# Altium schematic symbol library Schematic Diagrams.SchLib: 401 symbols (part 7 of 11)
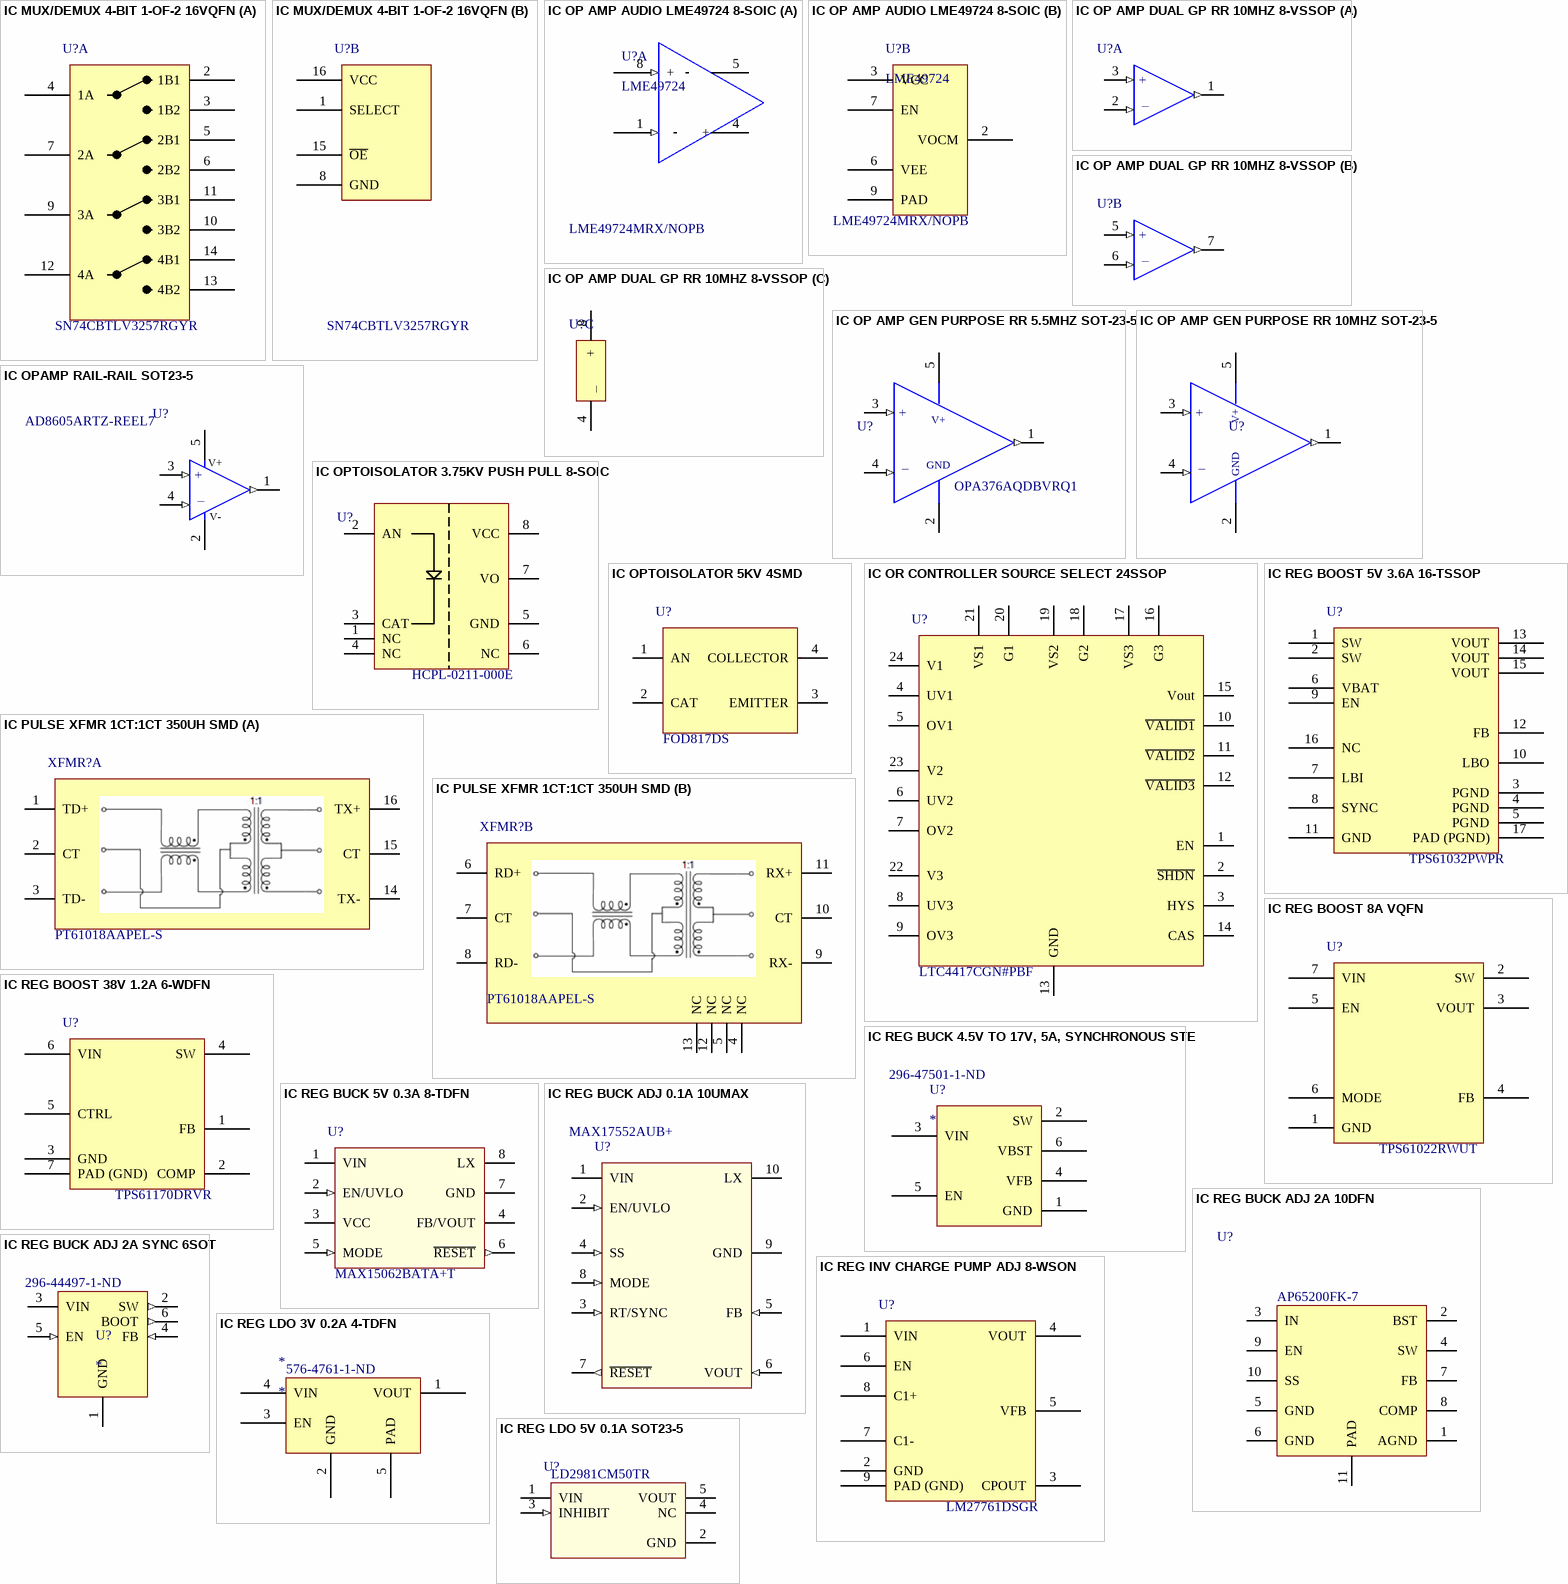
[diagram p20: symbols IC MUX/DEMUX 4-BIT 1-OF-2 16VQFN to IC REG LDO 5V 0.1A SOT23-5]

## IC REG BOOST 38V 1.2A 6-WDFN
designator U?  Manufacturer Part Number: TPS61170DRVR  (hidden comment: *)
Boost, Buck-Boost, Flyback, SEPIC Switching Regulator IC Positive Adjustable 3V 1 Output 960mA (Switch) 6-WDFN Exposed Pad; Manufacturer: Texas Instruments; Output Current: 1.2A; Output Voltage: 38V; Switching Frequency: 1.2MHz; Number of Outputs: 1; Efficiency: 93%; Max Input Voltage: 18V; Synchronous Rectifier: No; Quiescent Current: 2.3mA; Nominal Supply Current: 2.2mA; Supplier 1: Digi-Key; RoHS: Yes; Category: Voltage Regulators - Switching; Stock 1: 61005; Pricing 1: 1=2.14000, 10=1.92200, 25=1.81280, 100=1.45020, 250=1.26896, 500=1.23270, 1000=0.97891 (USD); Case/Package: QFN; Number of Pins: 6; Min Operating Temperature: -40°C; Max Operating Temperature: 85°C; Package Quantity: 1; Packaging: Tape and Reel; Max Output Current: 960mA; Min Input Voltage: 3V; Min Output Voltage: 3V; Max Output Voltage: 38V; Topology: Boost; Operating Supply Voltage: 18V; Output Type: Adjustable; Output Configuration: Positive; Radiation Hardening: No; REACH SVHC: No SVHC; Lead Free: Lead Free; ComponentLink1URL: https://datasheet.ciiva.com/7115/1764435-7115937.pdf?src-supplier=Newark; ComponentLink1Description: https://datasheet.ciiva.com/7115/1764435-7115937.pdf?src-supplier=Newark; ComponentLink2URL: https://datasheet.ciiva.com/41462/001014890-da-01-en-ic-reg-multi-con-tps61170drvr-wson-6-tid-41462735.pdf?src-supplier=Conrad; ComponentLink2Description: https://datasheet.ciiva.com/41462/001014890-da-01-en-ic-reg-multi-con-tps61170drvr-wson-6-tid-41462735.pdf?src-supplier=Conrad; ComponentLink3URL: https://datasheet.ciiva.com/2025/tps61170-2025720.pdf?src-supplier=Digi-Key; ComponentLink3Description: https://datasheet.ciiva.com/2025/tps61170-2025720.pdf?src-supplier=Digi-Key; ComponentLink4URL: https://datasheet.ciiva.com/2025/tps61170-2025721.pdf?src-supplier=Digi-Key; ComponentLink4Description: https://datasheet.ciiva.com/2025/tps61170-2025721.pdf?src-supplier=Digi-Key; ComponentLink5URL: https://datasheet.ciiva.com/15223/getdatasheetpartid-294050-15223093.pdf?src-supplier=Verical; ComponentLink5Description: https://datasheet.ciiva.com/15223/getdatasheetpartid-294050-15223093.pdf?src-supplier=Verical; ComponentLink6URL: https://datasheet.ciiva.com/2025/tps61170-2025719.pdf?src-supplier=Digi-Key; ComponentLink6Description: https://datasheet.ciiva.com/2025/tps61170-2025719.pdf?src-supplier=Digi-Key; Supplier Part Number 1: 296-22945-1-ND
footprint QFN65P200X200X80_HS-7M (QFN, 6-Leads, Body 2.00x2.00mm, Pitch 0.65mm, Thermal Pad 1.00x1.60mm, IPC Low Density)
pins: 1 FB, 2 COMP, 3 GND, 4 SW, 5 CTRL, 6 VIN, 7 PAD (GND)

## IC REG BUCK 4.5V TO 17V, 5A, SYNCHRONOUS STE
designator U?  Supplier Part Number 1: 296-47501-1-ND
Buck Switching Regulator IC Positive Adjustable 0.6V 1 Output 5A SOT-23-6 Thin, TSOT-23-6; Manufacturer: Texas Instruments; Manufacturer Part Number: TPS565201DDCT; Supplier 1: Digi-Key; Stock 1: 2226; Pricing 1: 1 = 2.46000, 10 = 2.21100, 100 = 1.77710 (USD); Min Operating Temperature: -40°C; Max Operating Temperature: 125°C
footprint IC REG BUCK 4.5V TO 17V, 5A (Buck Switching Regulator IC Positive Adjustable 0.6V 1 Output 5A SOT-23-6 Thin, TSOT-23-6)
pins: 1 GND, 2 SW, 3 VIN, 4 VFB, 5 EN, 6 VBST

## IC REG BUCK 5V 0.3A 8-TDFN
designator U?  Manufacturer Part Number 1: MAX15062BATA+T
Buck Switching Regulator IC Positive Fixed 5V 1 Output 300mA 8-WFDFN; Manufacturer 1: Maxim Integrated; Function: Step-Down; Number of Outputs: 1; Voltage - Input (Min): 4.5V; Voltage - Input (Max): 60V; Frequency - Switching: 500kHz; Synchronous Rectifier: Yes; Supplier 1: Digi-Key; Supplier Part Number 1: MAX15062BATA+TCT-ND; Packaging: Cut Tape (CT); Part Status: Active; Output Configuration: Positive; Topology: Buck; Output Type: Fixed; Voltage - Output (Min/Fixed): 5V; Voltage - Output (Max): -; Current - Output: 300mA; Operating Temperature: -40°C ~ 125°C (TJ); Mounting Type: Surface Mount; Package / Case: 8-WFDFN; Supplier Device Package: 8-TDFN (2x2); ComponentLink1URL: http://datasheets.maximintegrated.com/en/ds/MAX15062.pdf; ComponentLink1Description: http://datasheets.maximintegrated.com/en/ds/MAX15062.pdf
pins: 1 VIN (power), 2 EN/UVLO (in), 3 VCC (power), 4 FB/VOUT (power), 5 MODE (in), 6 ~{RESET} (out), 7 GND (power), 8 LX (power)

## IC REG BUCK ADJ 0.1A 10UMAX
designator U?  Manufacturer Part Number 1: MAX17552AUB+
Buck Switching Regulator IC Positive Adjustable 0.8V 1 Output 100mA 10-TFSOP, 10-MSOP (0.118", 3.00mm Width); Manufacturer 1: Maxim Integrated; Function: Step-Down; Number of Outputs: 1; Voltage - Input (Min): 4V; Voltage - Input (Max): 60V; Voltage - Output (Max): 54V; Frequency - Switching: 100kHz ~ 2.2MHz; Synchronous Rectifier: Yes; Supplier 1: Digi-Key; Supplier Part Number 1: MAX17552AUB+-ND; Packaging: Tube; Part Status: Active; Output Configuration: Positive; Topology: Buck; Output Type: Adjustable; Voltage - Output (Min/Fixed): 0.8V; Current - Output: 100mA; Operating Temperature: -40°C ~ 125°C (TJ); Mounting Type: Surface Mount; Package / Case: 10-TFSOP, 10-MSOP (0.118", 3.00mm Width); Supplier Device Package: 10-uMAX; ComponentLink1URL: http://datasheets.maximintegrated.com/en/ds/MAX17552.pdf; ComponentLink1Description: http://datasheets.maximintegrated.com/en/ds/MAX17552.pdf
footprint TSSOP50P490X110-10N (TSSOP, 10-Leads, Body 3.00x3.00mm, Pitch 0.50mm, IPC Medium Density)
pins: 1 VIN (power), 2 EN/UVLO (in), 3 RT/SYNC (in), 4 SS (in), 5 FB (in), 6 VOUT (in), 7 ~{RESET} (out), 8 MODE (in), 9 GND (power), 10 LX (power)

## IC REG BUCK ADJ 2A 10DFN
designator U?  Manufacturer Part Number 1: AP65200FK-7
Buck Switching Reg IC Positive Adjustable 0.925V 1 Output 2A 10-UFDFN Exposed Pad; Manufacturer 1: Diodes Incorporated; Function: Step-Down; Number of Outputs: 1; Voltage - Input (Min): 4.7V; Voltage - Input (Max): 18V; Voltage - Output (Max): 16V; Frequency - Switching: 340kHz; Synchronous Rectifier: Yes; Supplier 1: Digi-Key; Supplier Part Number 1: AP65200FK-7DICT-ND; Packaging: Cut Tape (CT); Part Status: Active; Output Configuration: Positive; Topology: Buck; Output Type: Adjustable; Voltage - Output (Min/Fixed): 0.925V; Current - Output: 2A; Operating Temperature: -40°C ~ 85°C (TA); Mounting Type: Surface Mount; Package / Case: 10-UFDFN Exposed Pad; Supplier Device Package: U-DFN2626-10; ComponentLink1URL: https://www.diodes.com/assets/Datasheets/AP65200.pdf; ComponentLink1Description: https://www.diodes.com/assets/Datasheets/AP65200.pdf
footprint 10-UFDFN
pins: 1 AGND, 2 BST, 3 IN, 4 SW, 5 GND (power), 6 GND (power), 7 FB, 8 COMP, 9 EN, 10 SS, 11 PAD

## IC REG BUCK ADJ 2A SYNC 6SOT
designator U?  Supplier Part Number 1: 296-44497-1-ND
Buck Switching Regulator IC Positive Adjustable 0.596V 1 Output 2A SOT-23-6 Thin, TSOT-23-6; Manufacturer: Texas Instruments; Manufacturer Part Number: TPS54202HDDCT; Min Input Voltage: 4.5V; Max Input Voltage: 28V; Number of Outputs: 1; Min Output Voltage: 600mV; Max Output Voltage: 26V; Switching Frequency: 500kHz; Quiescent Current: 40uA; Supplier 1: Digi-Key; Stock 1: 2574; Pricing 1: 1=2, 10=1.796, 100=1.4436 (USD); Case/Package: SOT-6; Number of Pins: 6; Min Operating Temperature: -40°C; Max Operating Temperature: 125°C; Output Current: 2A; Packaging: Cut Tape; Output Voltage: 26V; REACH SVHC: No SVHC; Lead Free: Lead Free; ComponentLink1URL: http://www.ti.com/lit/ds/symlink/tps54202h.pdf; ComponentLink1Description: http://www.ti.com/lit/ds/symlink/tps54202h.pdf; ComponentLink2URL: http://www.ti.com/general/docs/lit/getliterature.tsp?genericPartNumber=TPS54202H&amp;&amp;fileType=pdf; ComponentLink2Description: http://www.ti.com/general/docs/lit/getliterature.tsp?genericPartNumber=TPS54202H&amp;&amp;fileType=pdf; ComponentLink3URL: http://www.ti.com/general/docs/lit/getliterature.tsp?genericPartNumber=TPS54202H&&fileType=pdf; ComponentLink3Description: http://www.ti.com/general/docs/lit/getliterature.tsp?genericPartNumber=TPS54202H&&fileType=pdf
footprint SOT23-6
pins: 1 GND (power) "Ground pin. Source terminal of low-side power NFET as well as the ground terminal for controller", 2 SW (out) "Switch node connection between high-side NFET and low-side NFET.", 3 VIN (power) "Input voltage supply pin. The drain terminal of high-side power NFET", 4 FB (in) "Converter feedback input. Connect to output voltage with feedback resistor divider", 5 EN (in) "This pin is the enable pin. Float the EN pin to disable", 6 BOOT (out) "Supply input for the high-side NFET gate drive circuit. Connect a 0.1-μF capacitor between BOOT and"

## IC REG INV CHARGE PUMP ADJ 8-WSON
designator U?  Manufacturer Part Number: LM27761DSGR  (hidden comment: *)
Charge Pump Switching Regulator IC Negative Adjustable -1.5V 1 Output 250mA 8-WFDFN Exposed Pad; Manufacturer: Texas Instruments; Quiescent Current: 370uA; Supplier 1: Digi-Key; RoHS: No; Category: Voltage Regulators - Switching; Stock 1: 11534; Pricing 1: 1=1.63000, 10=1.46600, 25=1.38280, 100=1.10620, 250=0.96796, 500=0.94028, 1000=0.74670 (USD); Min Operating Temperature: -40°C; Max Operating Temperature: 85°C; Lead Free: Lead Free; ComponentLink1URL: http://www.ti.com/lit/ds/symlink/lm27761.pdf?src-supplier=Newark; ComponentLink1Description: http://www.ti.com/lit/ds/symlink/lm27761.pdf?src-supplier=Newark; ComponentLink2URL: http://www.ti.com/lit/ds/symlink/lm27761.pdf?src-supplier=Farnell; ComponentLink2Description: http://www.ti.com/lit/ds/symlink/lm27761.pdf?src-supplier=Farnell; ComponentLink3URL: http://www.ti.com/lit/ds/symlink/lm27761.pdf?src-supplier=Digi-Key; ComponentLink3Description: http://www.ti.com/lit/ds/symlink/lm27761.pdf?src-supplier=Digi-Key; ComponentLink4URL: http://www.ti.com/lit/gpn/lm27761?src-supplier=Mouser; ComponentLink4Description: http://www.ti.com/lit/gpn/lm27761?src-supplier=Mouser; Supplier Part Number 1: 296-44379-1-ND
footprint QFN50P200X200X80_HS-9M (QFN, 8-Leads, Body 2.00x2.00mm, Pitch 0.50mm, Thermal Pad 0.90x1.60mm, IPC Low Density)
pins: 1 VIN, 2 GND, 3 CPOUT, 4 VOUT, 5 VFB, 6 EN, 7 C1-, 8 C1+, 9 PAD (GND)

## IC REG LDO 3V 0.2A 4-TDFN
designator *  Supplier Part Number 1: 576-4761-1-ND
Manufacturer: Microchip Technology; Manufacturer Part Number: MIC94310-PYMT-TR; Regulator Topology: Positive Fixed; Voltage - Output: 3V; Current - Output: 200mA; Voltage - Dropout (Typical): 0.04V @ 200mA; Voltage - Input: Up to 3.6V; Current - Limit (Min): 250mA; Supplier 1: Digi-Key; RoHS: RoHS Compliant; Category: Integrated Circuits (ICs); Stock 1: 4802; Pricing 1: 1=0.45, 25=0.3708, 100=0.3386 (CAD); Packaging: Cut Tape (CT); Part Status: Active; Operating Temperature: -40°C ~ 125°C; Mounting Type: Surface Mount; Package / Case: 4-UFDFN Exposed Pad; Supplier Device Package: 4-TDFN (1.2x1.6); ComponentLink1URL: http://www.microchip.com/mymicrochip/filehandler.aspx?ddocname=en580409; ComponentLink1Description: http://www.microchip.com/mymicrochip/filehandler.aspx?ddocname=en580409
footprint IC REG LDO 3V 0.2A 4-TDFN (QFN, 4-Leads, Body 1.20x1.60mm, Pitch 0.50mm/1.40mm, Thermal Pad 0.86x0.50mm, IPC Medium Density)
pins: 1 VOUT, 2 GND, 3 EN, 4 VIN, 5 PAD

## IC REG LDO 5V 0.1A SOT23-5
designator U?  Manufacturer Part Number 1: LD2981CM50TR
Linear Voltage Regulator IC Positive Fixed Output 5V 100mA SOT-23-5; Manufacturer 1: STMicroelectronics; Voltage - Dropout (Typical): 0.18V @ 100mA; Voltage - Input: Up to 16V; Supplier 1: Digi-Key; Supplier Part Number 1: 497-7787-1-ND; Packaging: Cut Tape (CT); Part Status: Active; Regulator Topology: Positive Fixed; Voltage - Output: 5V; Current - Output: 100mA; Current - Limit (Min): -; Operating Temperature: -40°C ~ 125°C; Mounting Type: Surface Mount; Package / Case: SC-74A, SOT-753; Supplier Device Package: SOT-23-5; ComponentLink1URL: http://www.st.com/content/ccc/resource/technical/document/datasheet/group1/b7/b5/a1/83/9c/bd/4a/90/CD00001635/files/CD00001635.pdf/jcr:content/translations/en.CD00001635.pdf; ComponentLink1Description: http://www.st.com/content/ccc/resource/technical/document/datasheet/group1/b7/b5/a1/83/9c/bd/4a/90/CD00001635/files/CD00001635.pdf/jcr:content/translations/en.CD00001635.pdf
footprint SOT95P280X145-5N (SOT23, 5-Leads, Body 2.95x2.80mm, Pitch 0.95mm, IPC Medium Density)
pins: 1 VIN (power), 2 GND (power), 3 INHIBIT (in), 4 NC, 5 VOUT (power)

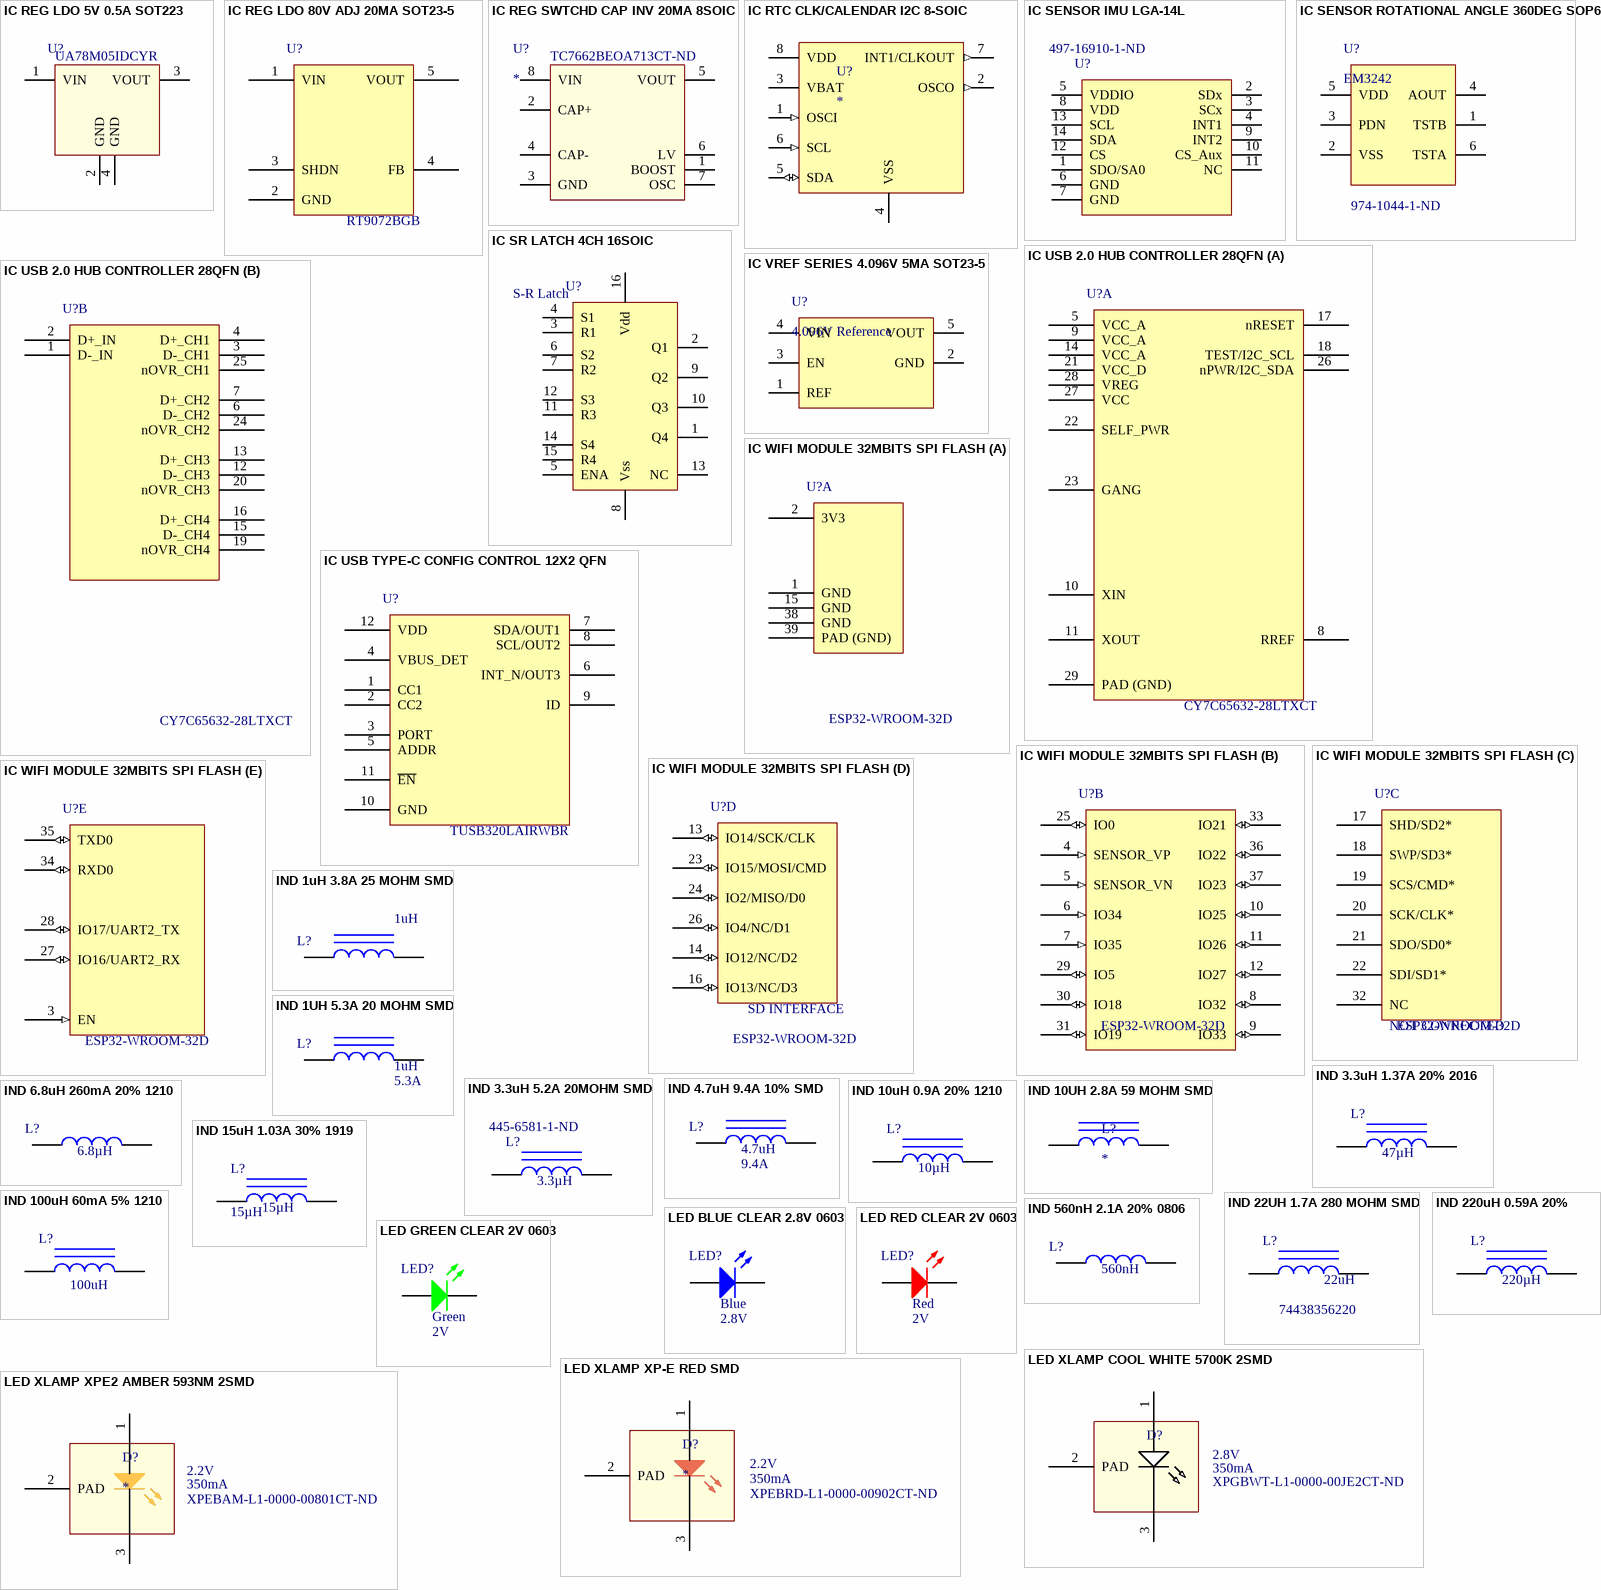
[diagram p10: symbols IC REG LDO 5V 0.5A SOT223 to LED XLAMP XPE2 AMBER 593NM 2SMD]

## IC REG LDO 5V 0.5A SOT223
designator U?  Manufacturer Part Number 1: UA78M05IDCYR
Linear Voltage Regulator IC Positive Fixed Output 5V 500mA SOT-223-4; Manufacturer 1: Texas Instruments; Voltage - Dropout (Typical): 2V @ 350mA; Voltage - Input: 7 V ~ 25 V; Supplier 1: Digi-Key; Supplier Part Number 1: 296-17616-1-ND; Packaging: Cut Tape (CT); Part Status: Active; Regulator Topology: Positive Fixed; Voltage - Output: 5V; Current - Output: 500mA; Current - Limit (Min): -; Operating Temperature: -40°C ~ 125°C; Mounting Type: Surface Mount; Package / Case: TO-261-4, TO-261AA; ComponentLink1URL: http://www.ti.com/lit/ds/symlink/ua78m.pdf; ComponentLink1Description: http://www.ti.com/lit/ds/symlink/ua78m.pdf; Supplier Device Package: SOT-223-4
footprint SOT223_N (SOT223, 4-Leads, Body 6.5x3.5mm, Pitch 2.3mm, Lead Span 7mm, IPC Medium Density)
pins: 1 VIN (power), 2 GND (power), 3 VOUT (power), 4 GND (power)

## IC REG LDO 80V ADJ 20MA SOT23-5
designator U?  Manufacturer Part Number: RT9072BGB  (hidden comment: *)
Linear Voltage Regulator IC 1 Output 20mA SOT-23-5; Manufacturer: Richtek; Supplier 1: Digi-Key; RoHS: No; Stock 1: 495; Pricing 1: 1=1.34000, 10=1.19700, 25=1.13640, 100=0.87250, 250=0.77104, 500=0.73048, 1000=0.56815 (USD); ComponentLink1URL: http://www.richtek.com/assets/product_file/RT9072A=RT9072B/DS9072AB-01.pdf?src-supplier=Digi-Key; ComponentLink1Description: http://www.richtek.com/assets/product_file/RT9072A=RT9072B/DS9072AB-01.pdf?src-supplier=Digi-Key; ComponentLink2URL: https://www.richtek.com/assets/product_file/RT9072A=RT9072B/DS9072AB-01.pdf?src-supplier=Digi-Key; ComponentLink2Description: https://www.richtek.com/assets/product_file/RT9072A=RT9072B/DS9072AB-01.pdf?src-supplier=Digi-Key; Supplier Part Number 1: RT9072BGBCT-ND
footprint SOT95P280X145-5N (SOT23, 5-Leads, Body 2.95x2.80mm, Pitch 0.95mm, IPC Medium Density)
pins: 1 VIN, 2 GND, 3 SHDN, 4 FB, 5 VOUT

## IC REG SWTCHD CAP INV 20MA 8SOIC
designator U?  Supplier Part Number 1: TC7662BEOA713CT-ND
Charge Pump Switching Regulator IC Positive or Negative Fixed -Vin, 2Vin 1 Output 20mA 8-SOIC (0.154", 3.90mm Width); Manufacturer: Microchip; Manufacturer Part Number: TC7662BEOA713; Number of Outputs: 1; Output Voltage: -15V; Min Supply Voltage: 1.5V; Max Supply Voltage: 15V; Switching Frequency: 35kHz; Synchronous Rectifier: No; Logic Function: Inverting; Output Power: 470mW; Supplier 1: Digi-Key; Stock 1: 59; Pricing 1: 1=2.29, 25=1.9056, 100=1.7304 (USD); Mount: Surface Mount; Case/Package: SOIC; Number of Pins: 8; Weight: 0.006596oz; Min Operating Temperature: -40°C; Max Operating Temperature: 85°C; Package Quantity: 1; Packaging: Tape and Reel; Output Current: 20mA; Max Output Current: 20mA; Max Input Voltage: 15V; Max Output Voltage: -15V; Topology: Charge Pump; Length: 5mm; Height: 1.5mm; Width: 3.99mm; Radiation Hardening: No; Lead Free: Lead Free; ComponentLink1URL: https://datasheet.ciiva.com/2024/21469a-2024368.pdf; ComponentLink1Description: https://datasheet.ciiva.com/2024/21469a-2024368.pdf; ComponentLink2URL: https://datasheet.ciiva.com/2024/filehandler-aspxddocname-en026002-2024369.pdf; ComponentLink2Description: https://datasheet.ciiva.com/2024/filehandler-aspxddocname-en026002-2024369.pdf; ComponentLink3URL: https://datasheet.ciiva.com/16295/filehandler-aspxddocname-en011347-16295442.pdf; ComponentLink3Description: https://datasheet.ciiva.com/16295/filehandler-aspxddocname-en011347-16295442.pdf; ComponentLink4URL: https://datasheet.ciiva.com/3216/cn-21469a-3216331.pdf; ComponentLink4Description: https://datasheet.ciiva.com/3216/cn-21469a-3216331.pdf; ComponentLink5URL: https://datasheet.ciiva.com/18553/filehandler-aspxddocname-en026002-18553038.pdf; ComponentLink5Description: https://datasheet.ciiva.com/18553/filehandler-aspxddocname-en026002-18553038.pdf; ComponentLink6URL: https://datasheet.ciiva.com/4875/21469a-4875151.pdf; ComponentLink6Description: https://datasheet.ciiva.com/4875/21469a-4875151.pdf
pins: 1 BOOST (power), 2 CAP+, 3 GND (power), 4 CAP- (power), 5 VOUT (power), 6 LV (power), 7 OSC (power), 8 VIN (power)

## IC RTC CLK/CALENDAR I2C 8-SOIC
designator U?
Real Time Clock (RTC) IC Clock/Calendar I²C, 2-Wire Serial 8-SOIC (0.154", 3.90mm Width); Manufacturer: NXP Semiconductors; Manufacturer Part Number: PCF8523T/1,118; Min Supply Voltage: 1.2V; Max Supply Voltage: 5.5V; Interface: I2C; Time Format: HH:MM:SS; Supplier 1: Digi-Key; Stock 1: 18252; Pricing 1: 1=1.3, 10=1.16, 100=0.9045, 500=0.74718, 1000=0.58988 (USD); Mount: Surface Mount; Case/Package: SO; Number of Pins: 8; Contact Plating: Gold; Min Operating Temperature: -40°C; Max Operating Temperature: 85°C; Packaging: Tape and Reel; Package Quantity: 2500; Logic Function: Clock; Radiation Hardening: No; REACH SVHC: No SVHC; Lead Free: Lead Free; ComponentLink1URL: https://datasheet.ciiva.com/15152/getdatasheetpartid-445247-15152839.pdf; ComponentLink1Description: https://datasheet.ciiva.com/15152/getdatasheetpartid-445247-15152839.pdf; ComponentLink2URL: https://datasheet.ciiva.com/1238/pcf8523-1238780.pdf; ComponentLink2Description: https://datasheet.ciiva.com/1238/pcf8523-1238780.pdf; ComponentLink3URL: https://datasheet.ciiva.com/1238/pcf8523-1238781.pdf; ComponentLink3Description: https://datasheet.ciiva.com/1238/pcf8523-1238781.pdf; ComponentLink4URL: https://datasheet.ciiva.com/16286/pcf8523-16286477.pdf; ComponentLink4Description: https://datasheet.ciiva.com/16286/pcf8523-16286477.pdf; ComponentLink5URL: https://datasheet.ciiva.com/1238/pcf8523-1238782.pdf; ComponentLink5Description: https://datasheet.ciiva.com/1238/pcf8523-1238782.pdf; Supplier Part Number 1: 568-5306-1-ND
footprint SOIC8
pins: 1 OSCI (in) "oscillator input;", 2 OSCO (out) "oscillator output; high-impedance", 3 VBAT (power) "battery supply voltage", 4 VSS "ground supply votlage", 5 SDA (io) "serial data input/output", 6 SCL (in) "serical clock input", 7 INT1/CLKOUT (out), 8 VDD (power)

## IC SENSOR IMU LGA-14L
designator U?  Supplier Part Number 1: 497-16910-1-ND  (hidden comment: *)
Accelerometer, Gyroscope, 3 Axis Sensor I²C, SPI Output; Manufacturer: STMicroelectronics; Manufacturer Part Number: LSM6DS3USTR; Supplier 1: Digi-Key; RoHS: RoHS Compliant; Category: Sensors, Transducers; Stock 1: 23614; Pricing 1: 1=4.3, 10=3.858, 100=3.1606, 500=2.69052, 1000=2.26912 (CAD); Part Status: Active; Sensor Type: Accelerometer, Gyroscope, 3 Axis; Output Type: I²C, SPI; Operating Temperature: -40°C ~ 85°C (TA); ComponentLink1URL: http://www.st.com/content/ccc/resource/technical/document/datasheet/group0/2e/84/27/34/60/8d/49/f2/DM00237513/files/DM00237513.pdf/jcr:content/translations/en.DM00237513.pdf; ComponentLink1Description: http://www.st.com/content/ccc/resource/technical/document/datasheet/group0/2e/84/27/34/60/8d/49/f2/DM00237513/files/DM00237513.pdf/jcr:content/translations/en.DM00237513.pdf
footprint IC SENSOR IMU LGA-14L (PQFN, 14-Leads, Body 3.00x2.50mm, Pitch 0.50mm, IPC Medium Density)
pins: 1 SDO/SA0, 2 SDx, 3 SCx, 4 INT1, 5 VDDIO, 6 GND, 7 GND, 8 VDD, 9 INT2, 10 CS_Aux, 11 NC, 12 CS, 13 SCL, 14 SDA

## IC SENSOR ROTATIONAL ANGLE 360DEG SOP6
designator U?, comment EM3242  Supplier Part Number 1: 974-1044-1-ND
Hall Effect Sensor Angle External Magnet, Not Included SMD (SMT) Tab; Manufacturer: AKM Semiconductor; Supplier 1: Digi-Key; Manufacturer Part Number: EM3242; Stock 1: 17913; Pricing 1: 1=4.79, 5=4.224, 10=3.731, 25=3.0272, 50=2.6752, 100=2.6048, 500=2.1824, 1000=2.0416 (USD); Mount: Surface Mount; Min Operating Temperature: -30°C; Max Operating Temperature: 85°C; Package Quantity: 5000; Termination: SMD/SMT; Sensing Method: Hall Effect; ComponentLink1URL: https://datasheet.ciiva.com/2812/em-324220ver-097-2812049.pdf; ComponentLink1Description: https://datasheet.ciiva.com/2812/em-324220ver-097-2812049.pdf; ComponentLink2URL: https://datasheet.ciiva.com/2812/em3242-2812050.pdf; ComponentLink2Description: https://datasheet.ciiva.com/2812/em3242-2812050.pdf; ComponentLink3URL: https://datasheet.ciiva.com/2812/em3242-2812051.pdf; ComponentLink3Description: https://datasheet.ciiva.com/2812/em3242-2812051.pdf
footprint IC SENSOR ROTATIONAL ANGLE 360DEG SOP6 (TSOP, 6-Leads, Body 3.60x3.00mm, Pitch 1.00mm, IPC Medium Density)
pins: 1 TSTB, 2 VSS, 3 PDN, 4 AOUT, 5 VDD, 6 TSTA

## IC SR LATCH 4CH 16SOIC
designator U?  Logic Type: S-R Latch
S-R Latch 4 Channel 1:1 IC Tri-State 16-TSSOP; Manufacturer 1: Texas Instruments; Manufacturer Part Number 1: CD4043BDR; Voltage - Supply: 3 V ~ 18 V; Delay Time - Propagation: 50ns; Current - Output High, Low: 6.8mA, 6.8mA; Supplier 1: Digi-Key; Supplier Part Number 1: 296-31496-1-ND; Packaging: Cut Tape (CT); Part Status: Active; Circuit: 1:1; Output Type: Tri-State; Operating Temperature: -55°C ~ 125°C; Mounting Type: Surface Mount; Package / Case: 16-SOIC (0.154", 3.90mm Width); Supplier Device Package: 16-SOIC; ComponentLink1URL: http://www.ti.com/lit/ds/symlink/cd4043b.pdf; ComponentLink1Description: http://www.ti.com/lit/ds/symlink/cd4043b.pdf
footprint IC, SR Latch, CD4043BDR (SR LATCH)
pins: 1 Q4, 2 Q1, 3 R1, 4 S1, 5 ENA, 6 S2, 7 R2, 8 Vss, 9 Q2, 10 Q3, 11 R3, 12 S3, 13 NC, 14 S4, 15 R4, 16 Vdd

## IC USB 2.0 HUB CONTROLLER 28QFN
designator U?  Manufacturer Part Number: CY7C65632-28LTXCT  (hidden comment: *)
USB Hub Controller USB 2.0 USB Interface 28-QFN (5x5); Manufacturer: Cypress; Data Rate: 480Mbps; Interface: I2C,SPI,GPIO; Max Supply Voltage: 5.25V; Min Supply Voltage: 3.15V; Operating Supply Current: 97.23mA; Operating Supply Voltage: 3.45V; Supplier 1: Digi-Key; RoHS: Yes; Category: Interface ICs; Stock 1: 14139; Pricing 1: 1=3.33000, 10=2.99500, 25=2.83160, 100=2.32800, 250=2.08896, 500=2.01344, 1000=1.67367 (USD); Case/Package: QFN; Number of Pins: 28; Min Operating Temperature: 0°C; Max Operating Temperature: 70°C; Package Quantity: 1; Packaging: Tape and Reel; Lead Free: Lead Free; ComponentLink1URL: https://datasheet.ciiva.com/6636/cy7c65632-34-6636581.pdf?src-supplier=Digi-Key; ComponentLink1Description: https://datasheet.ciiva.com/6636/cy7c65632-34-6636581.pdf?src-supplier=Digi-Key; ComponentLink2URL: https://datasheet.ciiva.com/6636/cy7c65632-34-6636584.pdf?src-supplier=Digi-Key; ComponentLink2Description: https://datasheet.ciiva.com/6636/cy7c65632-34-6636584.pdf?src-supplier=Digi-Key; Supplier Part Number 1: 428-3156-1-ND
footprint QFN50P500X500X80-29N
part A pins: 5 VCC_A, 8 RREF, 9 VCC_A, 10 XIN, 11 XOUT, 14 VCC_A, 17 nRESET, 18 TEST/I2C_SCL, 21 VCC_D, 22 SELF_PWR, 23 GANG, 26 nPWR/I2C_SDA, 27 VCC, 28 VREG, 29 PAD (GND)
part B pins: 1 D-_IN, 2 D+_IN, 3 D-_CH1, 4 D+_CH1, 6 D-_CH2, 7 D+_CH2, 12 D-_CH3, 13 D+_CH3, 15 D-_CH4, 16 D+_CH4, 19 nOVR_CH4, 20 nOVR_CH3, 24 nOVR_CH2, 25 nOVR_CH1

## IC USB TYPE-C CONFIG CONTROL 12X2 QFN
designator U?  Manufacturer Part Number: TUSB320LAIRWBR  (hidden comment: *)
USB, Type-C Configuration PMIC 12-X2QFN (1.6x1.6); Manufacturer: Texas Instruments; Supplier 1: Digi-Key; Supplier Part Number 1: 296-43142-1-ND; Stock 1: 1650; Pricing 1: 1 = 1.87000, 10 = 1.68100, 100 = 1.35140, 500 = 1.11034, 1000 = 0.92000 (USD); RoHS: Yes; Mount: Surface Mount; Number of Pins: 12; Min Operating Temperature: -40°C; Max Operating Temperature: 85°C; Packaging: Tape and Reel; Lead Free: Lead Free; ComponentLink1URL: http://www.ti.com/lit/ds/symlink/tusb320hai.pdf?src-supplier=Avnet+Asia; ComponentLink1Description: http://www.ti.com/lit/ds/symlink/tusb320hai.pdf?src-supplier=Avnet+Asia
footprint IC USB TYPE-C CONFIG CONTROL 12X2 QFN
pins: 1 CC1, 2 CC2, 3 PORT, 4 VBUS_DET, 5 ADDR, 6 INT_N/OUT3, 7 SDA/OUT1, 8 SCL/OUT2, 9 ID, 10 GND, 11 ~{EN}, 12 VDD

## IC VREF SERIES 4.096V 5MA SOT23-5
designator U?, comment 4.096V Reference
Series Voltage Reference IC ±0.2% 5mA SOT-23-5; Manufacturer 1: Texas Instruments; Manufacturer Part Number 1: LM4120AIM5-4.1/NOPB; Description 1: IC VREF SERIES 4.096V SOT23-5; Output Type: Fixed; Temperature Coefficient: 50ppm/°C; Noise - 0.1Hz to 10Hz: 20µVp-p; Noise - 10Hz to 10kHz: 36µVp-p; Voltage - Input: 2 V ~ 12 V; Current - Supply: 275µA; Supplier 1: Digi-Key; Supplier Part Number 1: LM4120AIM5-4.1/NOPBCT-ND; RoHS: RoHS Compliant; Category: Integrated Circuits (ICs); Stock 1: 10567; Pricing 1: 1=2.93, 10=2.633, 100=2.1166, 500=1.73892 (CAD); Packaging: Cut Tape (CT); Part Status: Active; Reference Type: Series; Voltage - Output (Min/Fixed): 4.096V; Tolerance: ±0.2%; Operating Temperature: -40°C ~ 85°C (TA); Mounting Type: Surface Mount; Package / Case: SC-74A, SOT-753; Supplier Device Package: SOT-23-5; ComponentLink1URL: http://www.ti.com/lit/ds/symlink/lm4120.pdf; ComponentLink1Description: http://www.ti.com/lit/ds/symlink/lm4120.pdf
footprint IC OP AMP GP RR 10MHZ SOT-23-5 (SOT23, 5-Leads, Body 2.90x2.80mm, Pitch 0.95mm, IPC Medium Density)
pins: 1 REF, 2 GND, 3 EN, 4 VIN, 5 VOUT

## IC WIFI MODULE 32MBITS SPI FLASH
designator U?, comment ESP32-WROOM-32D
WIFI MODULE 32MBITS SPI FLASH; Manufacturer: Espressif Systems; Supplier 1: Digi-Key; RoHS: No; Stock 1: 12381; Pricing 1: 1=3.80000 (USD); ComponentLink1URL: https://www.espressif.com/sites/default/files/documentation/esp32-wroom-32d_esp32-wroom-32u_datasheet_en.pdf?src-supplier=Digi-Key; ComponentLink1Description: https://www.espressif.com/sites/default/files/documentation/esp32-wroom-32d_esp32-wroom-32u_datasheet_en.pdf?src-supplier=Digi-Key; Supplier Part Number 1: 1904-1023-1-ND; Manufacturer Part Number: ESP32-WROOM-32D
footprint IC WIFI MODULE 32MBITS SPI FLASH
part A pins: 1 GND (power), 2 3V3 (power), 15 GND (power), 38 GND (power), 39 PAD (GND) (power)
part B pins: 4 SENSOR_VP (in), 5 SENSOR_VN (in), 6 IO34 (in), 7 IO35 (in), 8 IO32 (io), 9 IO33 (io), 10 IO25 (io), 11 IO26 (io), 12 IO27 (io), 25 IO0 (io), 29 IO5 (io), 30 IO18 (io), 31 IO19 (io), 33 IO21 (io), 36 IO22 (io), 37 IO23 (io)
part C pins: 17 SHD/SD2*, 18 SWP/SD3*, 19 SCS/CMD*, 20 SCK/CLK*, 21 SDO/SD0*, 22 SDI/SD1*, 32 NC
part D pins: 13 IO14/SCK/CLK (io), 14 IO12/NC/D2 (io), 16 IO13/NC/D3 (io), 23 IO15/MOSI/CMD (io), 24 IO2/MISO/D0 (io), 26 IO4/NC/D1 (io)
part E pins: 3 EN (in), 27 IO16/UART2_RX (io), 28 IO17/UART2_TX (io), 34 RXD0 (io), 35 TXD0 (io)
part C text: NOT CONNECTED
part D text: SD INTERFACE

## IND 1uH 3.8A 25 MOHM SMD
designator L?  Inductance: 1uH  (hidden comment: *)
1µH Shielded Inductor 3.8A 25mOhm Max Nonstandard /; Manufacturer: Vishay Dale; Manufacturer Part Number: IFSC1515AHER1R0M01; Tolerance: 20%; DC Resistance (DCR): 25mR; Test Frequency: 100kHz; Supplier 1: Digi-Key; Supplier Part Number 1: 541-1403-1-ND; Stock 1: 59210; Pricing 1: 1 = 0.64000, 10 = 0.55900, 100 = 0.39960, 500 = 0.33568, 1000 = 0.27175 (USD); RoHS: Yes; Mount: Surface Mount; Case/Package: 1515; Number of Pins: 2; Min Operating Temperature: -55°C; Max Operating Temperature: 125°C; Package Quantity: 2000; Current Rating: 3.8A; Saturation Current: 3.8A; Shielding: Shielded; Packaging: Tape and Reel; Inductance Tolerance: 20%; Max DC Current: 3.8A; Termination: SMD/SMT; RMS Current (Irms): 3.8A; Military Standard: Not; Length: 0.15inch; Height: 1.8mm; Width: 0.15inch; Height - Seated (Max): 0.075inch; Depth: 4mm; REACH SVHC: Unknown; Lead Free: Lead Free; ComponentLink1URL: https://datasheet.ciiva.com/1049/sc15ah01-1049408.pdf?src-supplier=Digi-Key; ComponentLink1Description: https://datasheet.ciiva.com/1049/sc15ah01-1049408.pdf?src-supplier=Digi-Key; ComponentLink2URL: https://datasheet.ciiva.com/1049/sc15ah01-1049409.pdf?src-supplier=Digi-Key; ComponentLink2Description: https://datasheet.ciiva.com/1049/sc15ah01-1049409.pdf?src-supplier=Digi-Key; ComponentLink3URL: https://datasheet.ciiva.com/3079/sc15ah01-3079157.pdf?src-supplier=Avnet; ComponentLink3Description: https://datasheet.ciiva.com/3079/sc15ah01-3079157.pdf?src-supplier=Avnet; ComponentLink4URL: https://datasheet.ciiva.com/1049/sc15ah01-1049407.pdf?src-supplier=Digi-Key; ComponentLink4Description: https://datasheet.ciiva.com/1049/sc15ah01-1049407.pdf?src-supplier=Digi-Key; ComponentLink5URL: https://datasheet.ciiva.com/8017/sc15ah01-8017535.pdf?src-supplier=Element14; ComponentLink5Description: https://datasheet.ciiva.com/8017/sc15ah01-8017535.pdf?src-supplier=Element14
footprint IND 1uH 3.8A 25 MOHM SMD
pins: 1, 2

## IND 1UH 5.3A 20 MOHM SMD
designator L?  Current Rating: 5.3A  Inductance: 1uH  (hidden comment: *)
WURTH ELEKTRONIK         74437334010             Surface Mount Power Inductor, WE-LHMI Series, 1 H, 5.3 A, 13.9 A, Shielded, 0.02 ohm; Manufacturer: Wurth Electronics; Core Material: Ferrite; Saturation Current: 13.9A; DC Resistance (DCR): 20mR; Self Resonant Frequency: 65MHz; Test Frequency: 100kHz; Tolerance: 20%; Supplier 1: Digi-Key; Manufacturer Part Number: 74437334010; RoHS: Yes; Category: Fixed Inductors; Stock 1: 2869; Pricing 1: 1=2.39000, 50=2.21400, 100=2.01300, 250=1.83000, 500=1.66300 (USD); Mount: Surface Mount; Case/Package: SMD/SMT; Number of Pins: 2; Min Operating Temperature: -40°C; Max Operating Temperature: 125°C; Packaging: Cut Tape; Composition: Wirewound; Shielding: Shielded; RMS Current (Irms): 5.3A; Inductance Tolerance: 20%; Length: 0.205inch; Width: 0.205inch; Height - Seated (Max): 0.079inch; REACH SVHC: Unknown; ComponentLink1URL: http://www.farnell.com/datasheets/1880894.pdf?src-supplier=Farnell; ComponentLink1Description: http://www.farnell.com/datasheets/1880894.pdf?src-supplier=Farnell; ComponentLink2URL: http://www.farnell.com/datasheets/1880894.pdf?src-supplier=Element14; ComponentLink2Description: http://www.farnell.com/datasheets/1880894.pdf?src-supplier=Element14; Supplier Part Number 1: 732-6149-1-ND
footprint IND 1UH 5.3A 20 MOHM 5020
pins: 1, 2

## IND 3.3uH 1.37A 20% 2016
designator L?  Inductance: 47µH
3.3µH Shielded Wirewound Inductor 1.37A 170 mOhm Max Nonstandard; Manufacturer: TDK Corporation; Manufacturer Part Number: VLS201612CX-3R3M; Material - Core: Ferrite; Tolerance: ±20%; Current - Saturation: 1.04A; Frequency - Test: 1MHz; Supplier 1: Digi-Key; Supplier Part Number 1: 445-172964-1-ND; RoHS: RoHS Compliant; Category: Inductors, Coils, Chokes; Stock 1: 4000; Pricing 1: 1=0.43, 10=0.387, 50=0.3014, 100=0.2798, 500=0.24538, 1000=0.19803 (USD); Packaging: Cut Tape (CT); Type: Wirewound; Current Rating: 1.37A; Shielding: Shielded; DC Resistance (DCR): 170 mOhm Max; Q @ Freq: -; Frequency - Self Resonant: -; Operating Temperature: -40°C ~ 105°C; Mounting Type: Surface Mount; Package / Case: Nonstandard; Size / Dimension: 0.079" L x 0.063" W (2.00mm x 1.60mm); Height - Seated (Max): 0.047" (1.20mm); Supplier Device Package: 2016; ComponentLink1URL: http://product.tdk.com/en/catalog/datasheets/inductor_commercial_power_vls-cx_en.pdf; ComponentLink1Description: http://product.tdk.com/en/catalog/datasheets/inductor_commercial_power_vls-cx_en.pdf
footprint 445-172964-1-ND
pins: 1, 2

## IND 3.3uH 5.2A 20MOHM SMD
designator L?  Inductance: 3.3µH  Supplier Part Number 1: 445-6581-1-ND
3.3µH Shielded Wirewound Inductor 5.2A 20 mOhm Max Nonstandard; Manufacturer: TDK Corporation; Manufacturer Part Number: VLS201612CX-3R3M; Material - Core: Ferrite; Tolerance: ±20%; Current Rating: 1.37A; Current - Saturation: 1.04A; DC Resistance (DCR): 170 mOhm Max; Frequency - Test: 1MHz; Inductance Tolerance: 30%; Test Frequency: 100kHz; RoHS: RoHS Compliant; Category: Inductors, Coils, Chokes; Packaging: Cut Tape (CT); Type: Wirewound; Shielding: Shielded; Q @ Freq: -; Frequency - Self Resonant: -; Operating Temperature: -40°C ~ 105°C; Mounting Type: Surface Mount; Package / Case: Nonstandard; Size / Dimension: 0.079" L x 0.063" W (2.00mm x 1.60mm); Height - Seated (Max): 0.047" (1.20mm); Supplier Device Package: 2016; ComponentLink1URL: http://product.tdk.com/en/catalog/datasheets/inductor_commercial_power_vls-cx_en.pdf; ComponentLink1Description: http://product.tdk.com/en/catalog/datasheets/inductor_commercial_power_vls-cx_en.pdf; Supplier 1: Digi-Key; Stock 1: 8114; Pricing 1: 1 = 0.60000, 10 = 0.52700, 100 = 0.37660, 500 = 0.31636 (USD); Mount: Surface Mount; Case/Package: Nonstandard; Core Material: Ferrite; Min Operating Temperature: -40°C; Max Operating Temperature: 105°C; Package Quantity: 1; Saturation Current: 5.2A; Max DC Current: 5.2A; Termination: SMD/SMT; Composition: Wirewound; RMS Current (Irms): 5.2A; Military Standard: Not; Length: 0.315inch; Height: 4mm; Width: 8mm; Depth: 8.7mm; REACH SVHC: No SVHC; Lead Free: Lead Free; ComponentLink2URL: http://www.mouser.com/ds/2/400/nductor_commercial_power_vlp8040_en-952627.pdf; ComponentLink2Description: http://www.mouser.com/ds/2/400/nductor_commercial_power_vlp8040_en-952627.pdf
footprint IND 3.3UH 5.2A 20 MOHM SMD VLP8040 (IND 3.3UH 5.2A 20 MOHM SMD)
pins: 1, 2

## IND 4.7uH 9.4A 10% SMD
designator L?  Max DC Current: 9.4A  Inductance: 4.7uH  (hidden comment: *)
Fixed Inductors SER1360 High Current 4.7 uH 10 % 9.4 A; Manufacturer: Coilcraft; Manufacturer Part Number: SER1360-472KLB; Core Material: Ferrite; Tolerance: 10%; Self Resonant Frequency: 32MHz; Shielding: Shielded; DC Resistance (DCR): 6.05mR; Test Frequency: 100kHz; Supplier 1: Mouser; Supplier Part Number 1: 994-SER1360-472KLB; Stock 1: 2176; Pricing 1: 1 = 2.07000, 10 = 1.85000, 50 = 1.66000, 100 = 1.48000, 1000 = 1.07000, 10000 = 0.99800 (USD); RoHS: Yes; Min Operating Temperature: -40°C; Max Operating Temperature: 85°C; Packaging: Cut Tape; Termination: SMD/SMT; Length: 13mm; Height: 5.8mm; Width: 12.9mm; Lead Free: Contains Lead; ComponentLink1URL: http://www.mouser.com/ds/2/597/ser1360-270713.pdf?src-supplier=Mouser; ComponentLink1Description: http://www.mouser.com/ds/2/597/ser1360-270713.pdf?src-supplier=Mouser
footprint IND 4.7uH 9.4A 10% SMD
pins: 1, 2

## IND 6.8uH 260mA 20% 1210
designator L?  Inductance: 6.8µH
6.8µH Shielded Wirewound Inductor 260mA 204 mOhm Max 1210 (3225 Metric); Manufacturer 1: TDK Corporation; Manufacturer Part Number 1: NLFV32T-6R8M-EF; Material - Core: Ferrite; Tolerance: ±20%; Supplier 1: Digi-Key; Supplier Part Number 1: 445-15776-1-ND; Packaging: Cut Tape (CT); Part Status: Active; Type: Wirewound; Current Rating: 260mA; Current - Saturation: -; Shielding: Shielded; DC Resistance (DCR): 204 mOhm Max; Q @ Freq: -; Frequency - Self Resonant: -; Ratings: -; Operating Temperature: -40°C ~ 105°C; Mounting Type: Surface Mount; Package / Case: 1210 (3225 Metric); Supplier Device Package: 1210 (3225 Metric); Size / Dimension: 0.126" L x 0.098" W (3.20mm x 2.50mm); Height - Seated (Max): 0.094" (2.40mm); ComponentLink1URL: https://product.tdk.com/info/en/catalog/datasheets/inductor_commercial_decoupling_nlfv32-ef_en.pdf; ComponentLink1Description: https://product.tdk.com/info/en/catalog/datasheets/inductor_commercial_decoupling_nlfv32-ef_en.pdf
footprint NLFV32T-6R8M-EF/IND 6.8uH
pins: 1, 2

## IND 10uH 0.9A 20% 1210
designator L?  Inductance: 10µH
10µH Shielded Wirewound Inductor 900mA 420 mOhm Max 1210 (3225 Metric); Manufacturer: Murata Electronics North America; Manufacturer Part Number: 1277AS-H-100M=P2; Tolerance: ±20%; Current Rating: 0.9A; Current - Saturation: 1.25A; Supplier 1: Digi-Key; Supplier Part Number 1: 490-10589-1-ND; Type: Wirewound; Shielding: Shielded; DC Resistance (DCR): 420 mOhm Max; Height - Seated (Max): 0.047" (1.20mm); ComponentLink1URL: http://www.toko.co.jp/products-murata/pdf/inductors/m_dfe322512c.pdf; ComponentLink1Description: datasheet
footprint 1210
pins: 1, 2

## IND 10UH 2.8A 59 MOHM SMD
designator L?
10µH Shielded Inductor 2.8A 59 mOhm Max Nonstandard; Manufacturer: Sumida; Manufacturer Part Number: CDRH103RNP-100NC-B; Core Material: Ferrite; Tolerance: 30%; Saturation Current: 3.18A; Inductance: 10uh; DC Resistance (DCR): 59mR; Test Frequency: 100kHz; Supplier 1: Digi-Key; Stock 1: 69; Pricing 1: 1=1.53, 10=1.42, 100=1.027, 500=0.7866 (USD); Mount: Surface Mount; Case/Package: Nonstandard; Min Operating Temperature: -40°C; Max Operating Temperature: 100°C; Packaging: Tape and Reel; Package Quantity: 1000; Current Rating: 2.8A; Shielding: Shielded; Max DC Current: 2.8A; Termination: SMD/SMT; Length: 0.402inch; Height: 3.1mm; Width: 0.394inch; Height - Seated (Max): 0.122inch; Depth: 10.3mm; Radiation Hardening: No; Lead Free: Lead Free; ComponentLink1URL: http://www.mouser.com/ds/2/390/CDRH103R-523372.pdf; ComponentLink1Description: http://www.mouser.com/ds/2/390/CDRH103R-523372.pdf; ComponentLink2URL: http://www.sumida.com/products/pdf/CDRH103R.pdf; ComponentLink2Description: http://www.sumida.com/products/pdf/CDRH103R.pdf; ComponentLink3URL: http://products.sumida.com/products/pdf/CDRH103R.pdf; ComponentLink3Description: http://products.sumida.com/products/pdf/CDRH103R.pdf; Supplier Part Number 1: 308-1910-1-ND
footprint INDP100102X31N (Precision Wire Wound Inductor, 2-Leads, Body 10.00x10.20mm, IPC Medium Density)
pins: 1, 2

## IND 15uH 1.03A 30% 1919
designator L?, comment 15µH
15µH Shielded Wirewound Inductor 1.03A 220 mOhm Max 1919 (4848 Metric); Manufacturer: Bourns Inc.; Manufacturer Part Number: SRR4018-150Y; Tolerance: ±30%; Current - Saturation: 820mA; Supplier 1: Digi-Key; Supplier Part Number 1: SRR4018-150YCT-ND; Type: Wirewound; Current Rating: 1.03A; DC Resistance (DCR): 20 mOhm Max; Height - Seated (Max): 0.079" (2.00mm); Inductance: 15µH
footprint IND_BOURNS_SRR40
pins: 1, 2

## IND 22UH 1.7A 280 MOHM SMD
designator L?  Manufacturer Part Number: 74438356220  Inductance: 22uH
FIXED IND 22UH 1.7A 280MOHM SMD; Manufacturer: Wurth Electronics; Supplier 1: Digi-Key; RoHS: No; Stock 1: 1274; Pricing 1: 1=1.99000, 50=1.89700, 100=1.75600, 250=1.62600, 500=1.50600 (USD); ComponentLink1URL: https://katalog.we-online.de/pbs/datasheet/74438356220.pdf?src-supplier=Digi-Key; ComponentLink1Description: https://katalog.we-online.de/pbs/datasheet/74438356220.pdf?src-supplier=Digi-Key; Supplier Part Number 1: 732-11664-1-ND
footprint IND 22UH 1.7A 280MOHM SMD (SMT Shielded Power Inductor, body 4.1x4.1mm)
pins: 1, 2

## IND 100uH 60mA 5% 1210
designator L?  value 100uH
100µH Unshielded Wirewound Inductor 60mA 11 Ohm Max 1210 (3225 Metric); Manufacturer: EPCOS (TDK); Manufacturer Part Number: B82422T1104J000; Material - Core: Ferrite; Tolerance: ±5%; Q @ Freq: 20 @ 796kHz; Supplier 1: Digi-Key; RoHS: RoHS Compliant; Category: Inductors, Coils, Chokes; Stock 1: 4846; Pricing 1: 1=0.65, 10=0.568, 100=0.4062, 500=0.3412, 1000=0.27621 (CAD); Packaging: Cut Tape (CT); Part Status: Active; Type: Wirewound; Shielding: Unshielded; DC Resistance (DCR): 11 Ohm Max; Ratings: AEC-Q200; Operating Temperature: -55°C ~ 125°C; Mounting Type: Surface Mount; Package / Case: 1210 (3225 Metric); Supplier Device Package: 1210 (3225 Metric); Size / Dimension: 0.126" L x 0.098" W (3.20mm x 2.50mm); Height - Seated (Max): 0.083" (2.10mm); ComponentLink1URL: https://en.tdk.eu/inf/30/db/ind_2008/b82422t.pdf; ComponentLink1Description: https://en.tdk.eu/inf/30/db/ind_2008/b82422t.pdf; Supplier Part Number 1: 495-5646-1-ND
footprint 1210
pins: 1, 2

## IND 220uH 0.59A 20%
designator L?  Inductance: 220µH
220µH Shielded Inductor 590mA 834 mOhm Nonstandard; Manufacturer 1: Laird-Signal Integrity Products; Manufacturer Part Number 1: TYS6045221M-10; Current - Saturation: 700mA; Frequency - Self Resonant: 3.5MHz; Tolerance: ±20%; Supplier 1: Digi-Key; Supplier Part Number 1: 240-2742-1-ND; Packaging: Cut Tape (CT); Part Status: Active; Type: -; Material - Core: -; Current Rating: 590mA; Shielding: Shielded; DC Resistance (DCR): 834 mOhm; Q @ Freq: -; Ratings: AEC-Q200; Operating Temperature: -40°C ~ 125°C; Mounting Type: Surface Mount; Package / Case: Nonstandard; Supplier Device Package: -; Size / Dimension: 0.236" L x 0.236" W (6.00mm x 6.00mm); Height - Seated (Max): 0.185" (4.70mm); ComponentLink1URL: http://assets.lairdtech.com/home/brandworld/files/TYS6045221M-10.pdf; ComponentLink1Description: http://assets.lairdtech.com/home/brandworld/files/TYS6045221M-10.pdf
footprint INDP6060X23N (Precision Wire Wound Inductor, 2-Leads, Body 6.00x6.00mm, IPC Medium Density)
pins: 1, 2

## IND 560nH 2.1A 20% 0806
designator L?  Inductance: 560nH
560nH Shielded Multilayer Inductor 2.1A 80 mOhm Max 0806 (2016 Metric); Manufacturer 1: Wurth Electronics Inc.; Manufacturer Part Number 1: 74479977156; Current - Saturation: 2.3A; Frequency - Self Resonant: 24MHz; Tolerance: ±20%; Supplier 1: Digi-Key; Supplier Part Number 1: 732-9702-1-ND; Packaging: Cut Tape (CT); Part Status: Active; Type: Multilayer; Material - Core: -; Current Rating: 2.1A; Shielding: Shielded; DC Resistance (DCR): 80 mOhm Max; Q @ Freq: -; Ratings: -; Operating Temperature: -40°C ~ 125°C; Mounting Type: Surface Mount; Package / Case: 0806 (2016 Metric); Size / Dimension: 0.079" L x 0.063" W (2.00mm x 1.60mm); Height - Seated (Max): 0.024" (0.60mm); ComponentLink1URL: http://katalog.we-online.de/pbs/datasheet/74479977156.pdf; ComponentLink1Description: http://katalog.we-online.de/pbs/datasheet/74479977156.pdf
footprint INDC2116X06N (Chip Inductor, 2-Leads, Body 2.10x1.60mm, IPC Medium Density)
pins: 1, 2

## LED BLUE CLEAR 2.8V 0603
designator LED?  Color: Blue  Voltage - Forward (Vf) (Typ): 2.8V
Blue 470nm LED Indication - Discrete 2.8V 0603 (1608 Metric); Manufacturer 1: Lite-On Inc.; Manufacturer Part Number 1: LTST-C193TBKT-5A; Lens Color: Colorless; Lens Transparency: Clear; Millicandela Rating: 15mcd; Lens Style/Size: Rectangle with Flat Top, 1.15mm x 0.80mm; Current - Test: 5mA; Viewing Angle: 130°; Wavelength - Peak: 468nm; Supplier 1: Digi-Key; Supplier Part Number 1: 160-1827-1-ND; Packaging: Cut Tape (CT); Part Status: Active; Mounting Type: Surface Mount; Wavelength - Dominant: 470nm; Package / Case: 0603 (1608 Metric); Supplier Device Package: Chip LED; Size / Dimension: 1.60mm L x 0.80mm W; Height (Max): 0.45mm; ComponentLink1URL: http://optoelectronics.liteon.com/upload/download/DS22-2004-060/P_100_LTST-C193TBKT-5A.pdf; ComponentLink1Description: http://optoelectronics.liteon.com/upload/download/DS22-2004-060/P_100_LTST-C193TBKT-5A.pdf
footprint LED_0603
pins: 1 A, 2 K

## LED GREEN CLEAR 2V 0603
designator LED?  Color: Green  Voltage - Forward (Vf) (Typ): 2V
Green 572nm LED Indication - Discrete 2V 0603 (1608 Metric); Manufacturer: Wurth Electronics Inc.; Manufacturer Part Number: 150060VS75000; Lens Color: Colorless; Lens Transparency: Clear; Millicandela Rating: 40mcd; Lens Style/Size: Rectangle with Flat Top, 1.10mm x 0.70mm; Current - Test: 20mA; Viewing Angle: 140°; Wavelength - Dominant: 570nm; Supplier 1: Digi-Key; RoHS: RoHS Compliant; Category: Optoelectronics; Stock 1: 9408; Pricing 1: 1=0.21, 100=0.1617, 500=0.13964 (CAD); Packaging: Cut Tape (CT); Part Status: Active; Mounting Type: Surface Mount; Wavelength - Peak: 572nm; Features: -; Package / Case: 0603 (1608 Metric); Supplier Device Package: 0603; Size / Dimension: 1.60mm L x 0.80mm W; Height (Max): 0.80mm; ComponentLink1URL: http://katalog.we-online.de/led/datasheet/150060VS75000.pdf; ComponentLink1Description: http://katalog.we-online.de/led/datasheet/150060VS75000.pdf; Supplier Part Number 1: 732-4980-1-ND
footprint LED_0603
pins: 1 A, 2 K

## LED RED CLEAR 2V 0603
designator LED?  Color: Red  Voltage - Forward (Vf) (Typ): 2V
Red 631nm LED Indication - Discrete 2V 0603 (1608 Metric); Manufacturer: Wurth Electronics Inc.; Manufacturer Part Number: 150060RS75000; Lens Color: Colorless; Lens Transparency: Clear; Millicandela Rating: 250mcd; Lens Style/Size: Rectangle with Flat Top, 1.10mm x 0.70mm; Current - Test: 20mA; Viewing Angle: 140°; Wavelength - Dominant: 625nm; Wavelength - Peak: 630nm; Supplier 1: Digi-Key; RoHS: RoHS Compliant; Category: Optoelectronics; Stock 1: 35521; Pricing 1: 1=0.21, 100=0.1617, 500=0.13964 (CAD); Packaging: Cut Tape (CT); Part Status: Active; Mounting Type: Surface Mount; Features: -; Package / Case: 0603 (1608 Metric); Supplier Device Package: 0603; Size / Dimension: 1.60mm L x 0.80mm W; Height (Max): 0.80mm; ComponentLink1URL: http://katalog.we-online.de/led/datasheet/150060RS75000.pdf; ComponentLink1Description: http://katalog.we-online.de/led/datasheet/150060RS75000.pdf; Supplier Part Number 1: 732-4978-1-ND
footprint LED_0603
pins: 1 A, 2 K

## LED XLAMP COOL WHITE 5700K 2SMD
designator D?  Forward Voltage: 2.8V  Test Current: 350mA  Supplier Part Number 1: XPGBWT-L1-0000-00JE2CT-ND  (hidden comment: *)
LED Lighting XLamp® XP-E2 White, Cool 5700K 2.9V 350mA 110° 1414 (3535 Metric); Manufacturer: Cree; Manufacturer Part Number: XPGBWT-L1-0000-00JE2; Max Current Rating: 1.5A; Viewing Angle: 115°; Thermal Resistance of Package: 4°C/W; ComponentLink1URL: http://www.mouser.com/ds/2/90/XLampXPE2-253473.pdf?src-supplier=Mouser; ComponentLink1Description: http://www.mouser.com/ds/2/90/XLampXPE2-253473.pdf?src-supplier=Mouser; ComponentLink2URL: http://www.cree.com/~/media/Files/Cree/LED%20Components%20and%20Modules/XLamp/Data%20and%20Binning/XLampXPE2.pdf?src-supplier=Digi-Key; ComponentLink2Description: http://www.cree.com/~/media/Files/Cree/LED%20Components%20and%20Modules/XLamp/Data%20and%20Binning/XLampXPE2.pdf?src-supplier=Digi-Key; ComponentLink3URL: https://www.verical.com/server-webapp/html/getDatasheet?partID=702662&src-supplier=Verical; ComponentLink3Description: https://www.verical.com/server-webapp/html/getDatasheet?partID=702662&src-supplier=Verical; Supplier 1: Digi-Key; RoHS: Yes; Stock 1: 6024; Pricing 1: 1 = 1.47000, 10 = 1.40100, 100 = 1.25340, 250 = 1.13988, 500 = 1.06762 (USD); Mount: Surface Mount; Case/Package: SMD/SMT; Color: White; Packaging: Tape and Reel; Correlated Color Temperature (CCT): 5700K; Length: 3.45mm; Width: 3.45mm; Lead Free: Lead Free
footprint LED CREE XP-E2 1414 2-SMD
pins: 1 A, 2 PAD "thermal pad", 3 K

## LED XLAMP XP-E RED SMD
designator D?  Forward Voltage: 2.2V  Test Current: 350mA  Supplier Part Number 1: XPEBRD-L1-0000-00902CT-ND
LED Lighting Color XLamp® XP-E2 Red 623nm (620nm ~ 625nm) 1414 (3535 Metric); Manufacturer: Cree; Manufacturer Part Number: XPEBRD-L1-0000-00902; Max Current Rating: 1A; Test Temperature: 25°C; Viewing Angle: 130°; Thermal Resistance of Package: 5°C/W; Supplier 1: Digi-Key; RoHS: Yes; Stock 1: 1640; Pricing 1: 1 = 2.00000, 10 = 1.90000, 100 = 1.69980, 250 = 1.54584, 500 = 1.44786 (USD); Mount: Surface Mount; Case/Package: SMD/SMT; Color: Red; Packaging: Tape and Reel; Wavelength: 625nm; Lead Free: Lead Free
footprint LED CREE XP-E2 1414 2-SMD
pins: 1 A, 2 PAD "thermal pad", 3 K

## LED XLAMP XPE2 AMBER 593NM 2SMD
designator D?  Forward Voltage: 2.2V  Forward Current: 350mA  Supplier Part Number 1: XPEBAM-L1-0000-00801CT-ND
LED Lighting Color XLamp® XP-E2 Amber 593nm (590nm ~ 595nm) 1414 (3535 Metric); Manufacturer: Cree; Manufacturer Part Number: XPEBAM-L1-0000-00801; Color: Orange; Lens Color: Clear; Power Rating: 3W; Viewing Angle: 130°; Max Current Rating: 1A; Thermal Resistance of Package: 7°C/W; Test Temperature: 25°C; Luminous Flux: 73.9lm; Lens Style: Dome; Reverse Voltage (DC): 5V; Number of Elements: 1; ComponentLink1URL: http://www.cree.com/~/media/Files/Cree/LED%20Components%20and%20Modules/XLamp/Data%20and%20Binning/XLampXPE2.pdf?src-supplier=Digi-Key; ComponentLink1Description: http://www.cree.com/~/media/Files/Cree/LED%20Components%20and%20Modules/XLamp/Data%20and%20Binning/XLampXPE2.pdf?src-supplier=Digi-Key; ComponentLink2URL: http://www.mouser.com/ds/2/90/XLampXPE2-253473.pdf?src-supplier=Mouser; ComponentLink2Description: http://www.mouser.com/ds/2/90/XLampXPE2-253473.pdf?src-supplier=Mouser; Supplier 1: Digi-Key; RoHS: Yes; Stock 1: 4413; Pricing 1: 1 = 1.60000, 10 = 1.51600, 100 = 1.35640, 250 = 1.23356, 500 = 1.15536 (USD); Mount: Surface Mount; Case/Package: SMD/SMT; Number of Pins: 2; Max Operating Temperature: 150°C; Illumination Color: Orange; Wavelength: 595nm; Packaging: Tape and Reel; Package Quantity: 1000; Test Current: 350mA; Dominant Wavelength: 595nm; Reverse Voltage: 5V; Length: 3.45mm; Height: 2.26mm; Width: 3.45mm; Depth: 3.45mm; Lead Free: Lead Free
footprint LED CREE XP-E2 1414 2-SMD
pins: 1 A, 2 PAD "thermal pad", 3 K

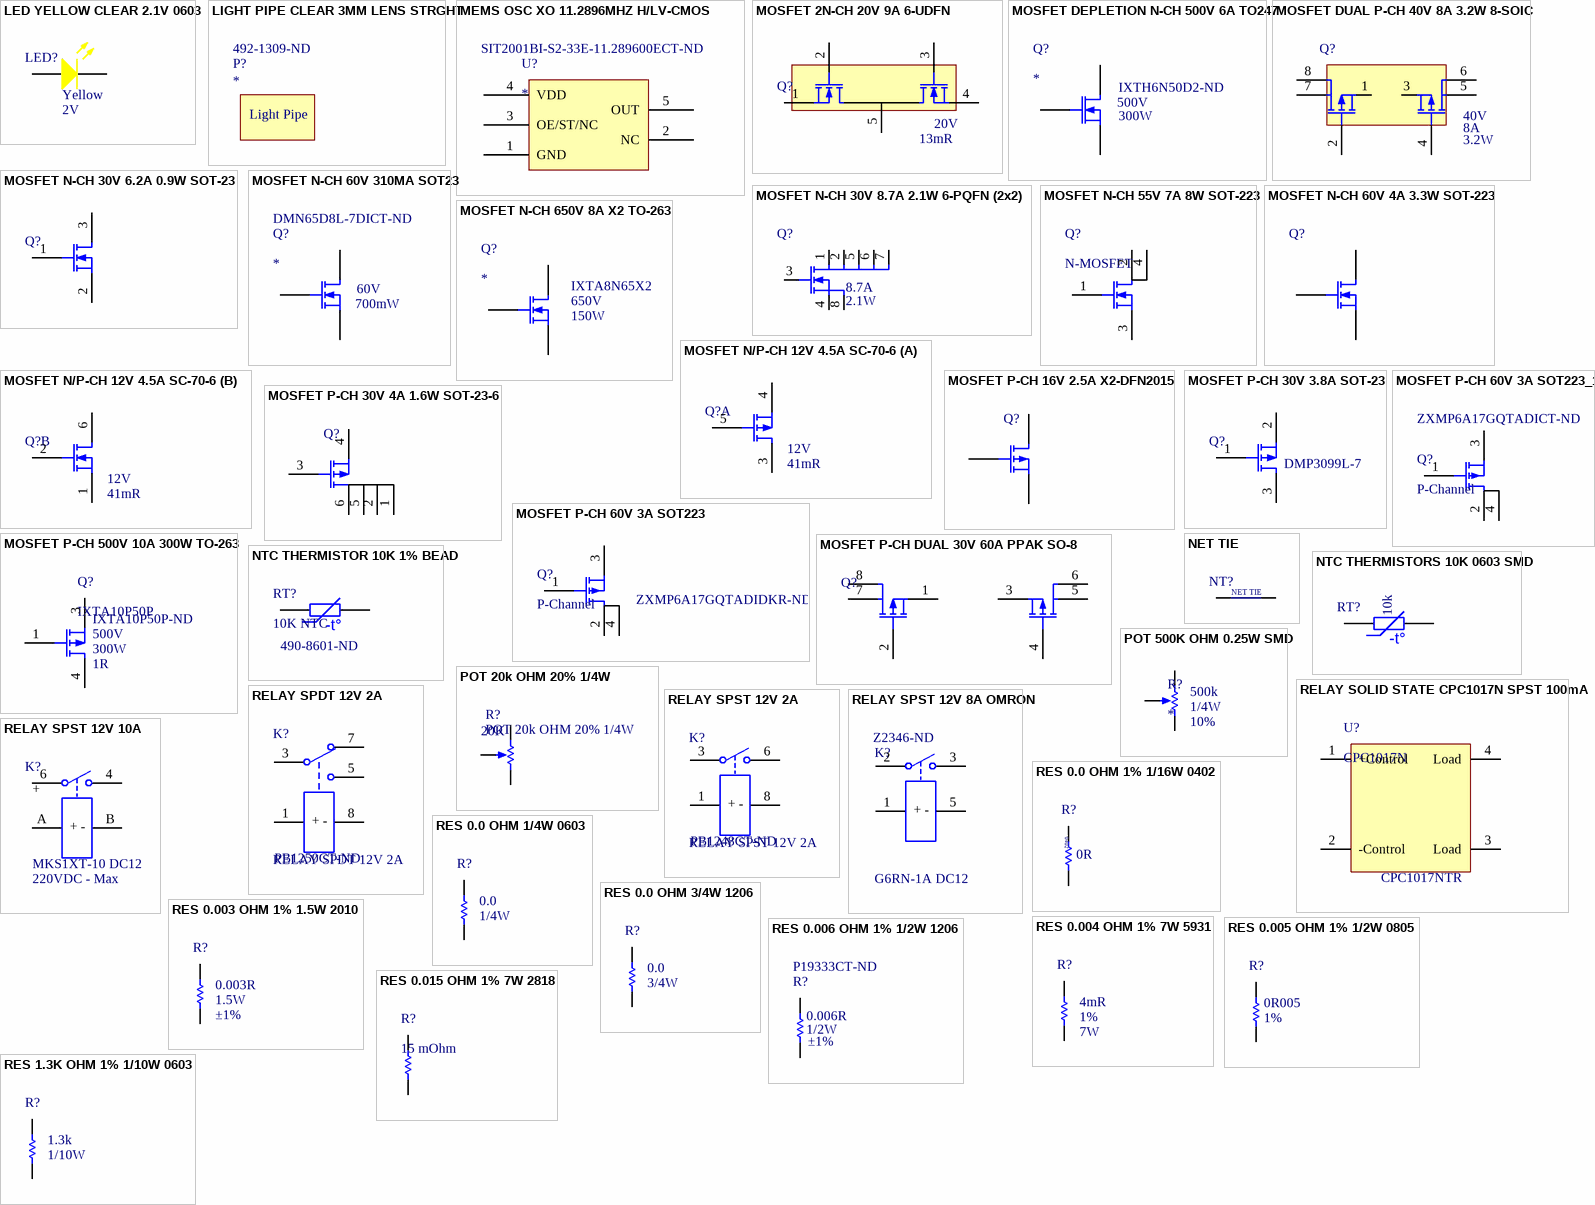
[diagram p11: symbols LED YELLOW CLEAR 2.1V 0603 to RES 1.3K OHM 1% 1/10W 0603]

## LED YELLOW CLEAR 2.1V 0603
designator LED?  Color: Yellow  Voltage - Forward (Vf) (Typ): 2V  (hidden comment: LED YELLOW CLEAR 2.1V 0603)
Yellow 590nm LED Indication - Discrete 2V 0603 (1608 Metric); Manufacturer: Wurth Electronics Inc.; Manufacturer Part Number: 150060YS75000; Lens Color: Colorless; Millicandela Rating: 120mcd; Lens Style/Size: Rectangle with Flat Top, 1.10mm x 0.70mm; Current - Test: 20mA; Viewing Angle: 140°; Wavelength - Peak: 595nm; Supplier 1: Digi-Key; RoHS: RoHS Compliant; Category: Optoelectronics; Stock 1: 10523; Pricing 1: 1=0.21, 100=0.1617, 500=0.13964 (CAD); Packaging: Cut Tape (CT); Part Status: Active; Lens Transparency: Clear; Mounting Type: Surface Mount; Wavelength - Dominant: 590nm; Features: -; Package / Case: 0603 (1608 Metric); Supplier Device Package: 0603; Size / Dimension: 1.60mm L x 0.80mm W; Height (Max): 0.80mm; ComponentLink1URL: http://katalog.we-online.de/led/datasheet/150060YS75000.pdf; ComponentLink1Description: http://katalog.we-online.de/led/datasheet/150060YS75000.pdf; Supplier Part Number 1: 732-4981-1-ND
footprint LED_0603
pins: 1 A, 2 K